# EAGLE library part LSM330DL (library pepelac)
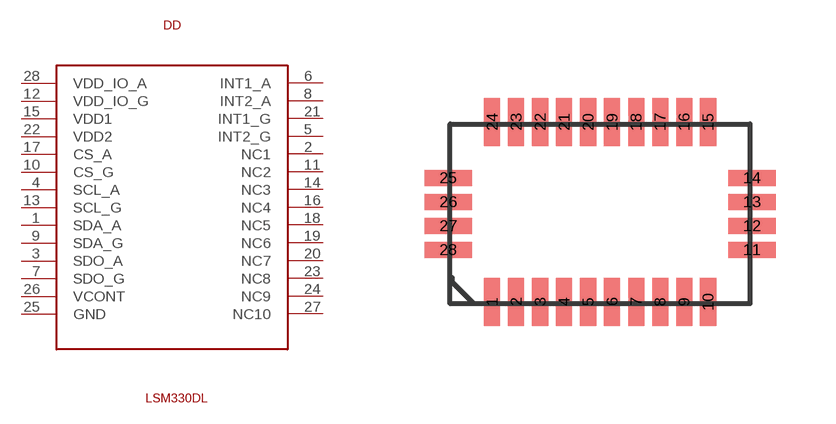
[diagram p7: symbol with the pads of LLGA; footprint LLGA]

Designator prefix DD

## LSM330DL  [LLGA]
1  SDA_A
2  NC1
3  SDO_A
4  SCL_A
5  INT2_G
6  INT1_A
7  SDO_G
8  INT2_A
9  SDA_G
10  CS_G
11  NC2
12  VDD_IO_G
13  SCL_G
14  NC3
15  VDD1
16  NC4
17  CS_A
18  NC5
19  NC6
20  NC7
21  INT1_G
22  VDD2
23  NC8
24  NC9
25  GND
26  VCONT
27  NC10
28  VDD_IO_A

## Footprint LLGA (pad centres in mm)
smd 0.4 x 1.2: 1 -2.7,-2.2; 2 -2.1,-2.2; 3 -1.5,-2.2; 4 -0.9,-2.2; 5 -0.3,-2.2; 6 0.3,-2.2; 7 0.9,-2.2; 8 1.5,-2.2; 9 2.1,-2.2; 10 2.7,-2.2; 15 2.7,2.3; 16 2.1,2.3; 17 1.5,2.3; 18 0.9,2.3; 19 0.3,2.3; 20 -0.3,2.3; 21 -0.9,2.3; 22 -1.5,2.3; 23 -2.1,2.3; 24 -2.7,2.3
smd 1.2 x 0.4: 11 3.8,-0.9; 12 3.8,-0.3; 13 3.8,0.3; 14 3.8,0.9; 25 -3.8,0.9; 26 -3.8,0.3; 27 -3.8,-0.3; 28 -3.8,-0.9